# EAGLE library part L89 (library L89)
Check availability <https://pricing.snapeda.com/parts/L89HA-S90/Quectel/view-part?ref=eda>
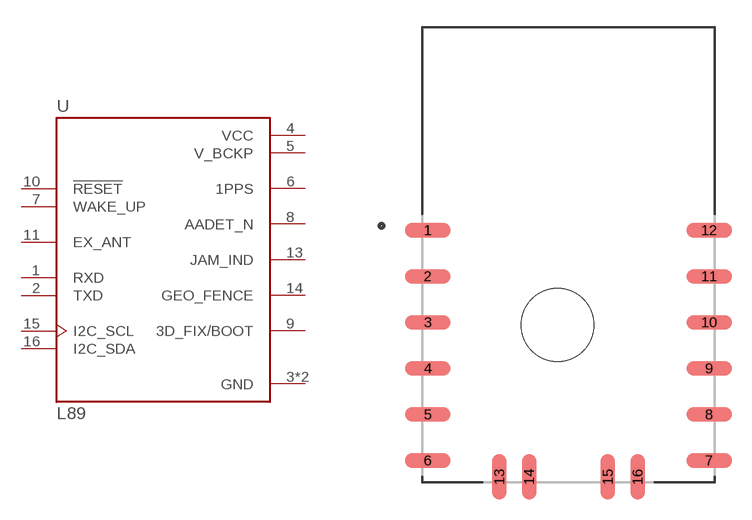
[diagram p0: symbol with the pads of XCVR_L89; footprint XCVR_L89]

Designator prefix U

## L89 (Availability: In Stock; Check_prices: https://www.snapeda.com/parts/L89HA-S90/Quectel/view-part/?ref=eda; Description: L89 is a high performance IRNSS-enabled GNSS module, capable of acquiring and tracing GPS, IRNSS, GLONASS, BeiDou, Galileo and QZSS signals.; MF: Quectel; MP: L89HA-S90; Package: SMD-16 Quectel; Price: None; SnapEDA_Link: https://www.snapeda.com/parts/L89HA-S90/Quectel/view-part/?ref=snap)  [XCVR_L89]
1  RXD  in
2  TXD  out
3  GND  pwr
4  VCC  pwr
5  V_BCKP  pwr
6  1PPS  out
7  WAKE_UP  in
8  AADET_N  out
9  3D_FIX/BOOT
10  !RESET  in
11  EX_ANT  in
12  GND  pwr
13  JAM_IND  out
14  GEO_FENCE  out
15  I2C_SCL
16  I2C_SDA

## Footprint XCVR_L89 (pad centres in mm)
smd 2.5 x 0.8: 1 -7.75,1.35; 2 -7.75,-1.19; 3 -7.75,-3.73; 4 -7.75,-6.27; 5 -7.75,-8.81; 6 -7.75,-11.35; 7 7.75,-11.35; 8 7.75,-8.81; 9 7.75,-6.27; 10 7.75,-3.73; 11 7.75,-1.19; 12 7.75,1.35
smd 0.8 x 2.5: 13 -3.81,-12.25; 14 -2.17,-12.25; 15 2.17,-12.25; 16 3.81,-12.25
hole 4 at -0.6,-3.87